# Altium footprint library KING-LED2107-13-RED-2_V.PcbLib: 1 footprints
Each footprint in its own frame and in the unit in brackets; x right, y up, seen from the top. Pads: shape width x height; smd on the part's side, far side on the other; paste and mask are expansions set on the pad; w line width, h text height; cw(c..) or ccw(c..) is an arc to the next point about the centre after c.
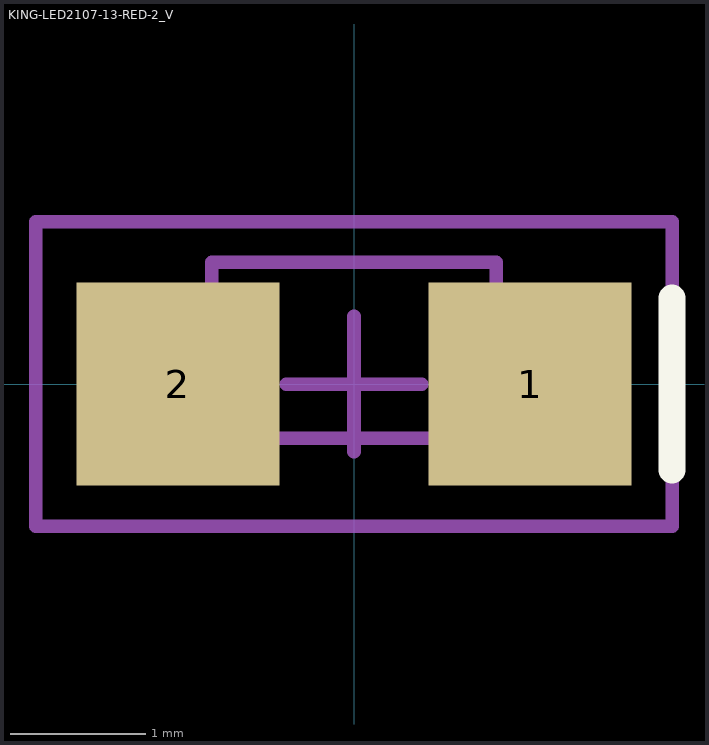
[diagram p0: the footprint, top view; thin cyan lines are the x and y axes]

## KING-LED2107-13-RED-2_V [mm] "LED, Right Angle SMT, 2.1x0.7mm, 1.3mm Thickness, Pad 1 Cathode"
height 1.3
pads (2):
  rect 1.5x1.5 smd paste+0 mask+0: 1(1.3,0) 2(-1.3,0)
Top Overlay:
  lines w0.2: 2.35,-0.635 2.35,0.635
Mechanical 13:
  lines w0.1: -1.05,-0.4 1.05,-0.4 1.05,0.9 -1.05,0.9 -1.05,-0.4
Mechanical 15:
  lines w0.1: -0.5,0 0.5,0 ; 0,-0.5 0,0.5 ; -2.35,-1.05 2.35,-1.05 2.35,1.2 -2.35,1.2 -2.35,-1.05
3D body: height 0.67, standoff -0.03, extent -1.05,-0.4 1.05,0.9